# Altium footprint library X2QFN-8.PcbLib: 1 footprints
Each footprint in its own frame and in the unit in brackets; x right, y up, seen from the top. Pads: shape width x height; smd on the part's side, far side on the other; paste and mask are expansions set on the pad; w line width, h text height; cw(c..) or ccw(c..) is an arc to the next point about the centre after c.
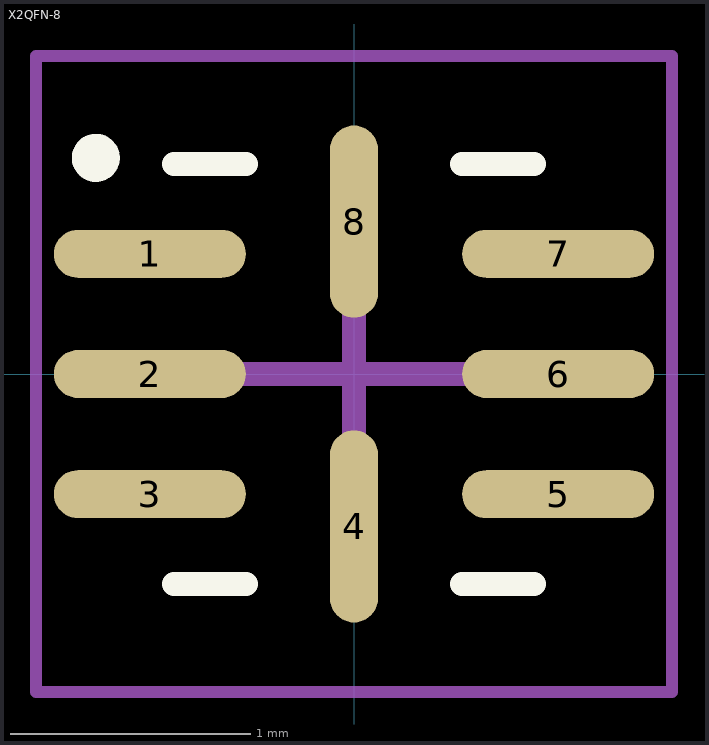
[diagram p0: the footprint, top view; thin cyan lines are the x and y axes]

## X2QFN-8 [mm]
height 0.4
pads (8):
  oval 0.8x0.2 smd: 1(-0.85,0.5) 2(-0.85,0) 3(-0.85,-0.5) 5(0.85,-0.5) 6(0.85,0) 7(0.85,0.5)
  oval 0.2x0.8 smd: 4(0,-0.635) 8(0,0.635)
Top Overlay:
  circle w0.1: c-1.075,0.9 r0.05
  lines w0.1: -0.75,-0.875 -0.45,-0.875 ; -0.75,0.875 -0.45,0.875 ; 0.45,-0.875 0.75,-0.875 ; 0.45,0.875 0.75,0.875
Mechanical 15:
  lines w0.05: -1.325,-1.325 -1.325,1.325 1.325,1.325 1.325,-1.325 -1.325,-1.325
  lines w0.1: -0.5,0 0.5,0 ; 0,-0.5 0,0.5
3D body "X2QFN-8.step": height 0.4, standoff 0.05, extent -0.775,-0.775 0.775,0.775